# EAGLE library part USBMINIB (library DAC)
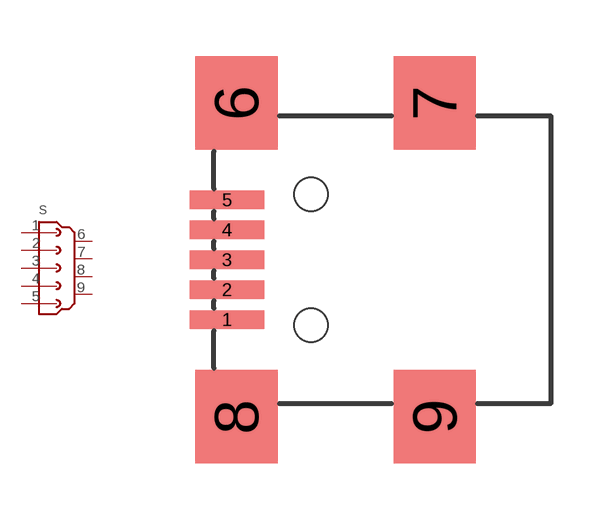
[diagram p26: symbol with the pads of USBMINIB; footprint USBMINIB]

Designator prefix S

## USBMINIB  [USBMINIB]
1  1  pwr
2  2
3  3
4  4
5  5  sup
6  6  sup
7  7  sup
8  8  sup
9  9  sup

## Footprint USBMINIB (pad centres in mm)
smd 2 x 0.5: 1 -4.475,-1.6; 2 -4.475,-0.8; 3 -4.475,0; 4 -4.475,0.8; 5 -4.475,1.6
smd 2.2 x 2.5: 6 -4.225,4.2; 7 1.075,4.2; 8 -4.225,-4.2; 9 1.075,-4.2
hole 0.9 at -2.225,-1.75
hole 0.9 at -2.225,1.75